# Altium footprint library XY-V17B封装图.PcbLib: 1 footprints
Each footprint in its own frame and in the unit in brackets; x right, y up, seen from the top. Pads: shape width x height; smd on the part's side, far side on the other; paste and mask are expansions set on the pad; w line width, h text height; cw(c..) or ccw(c..) is an arc to the next point about the centre after c.
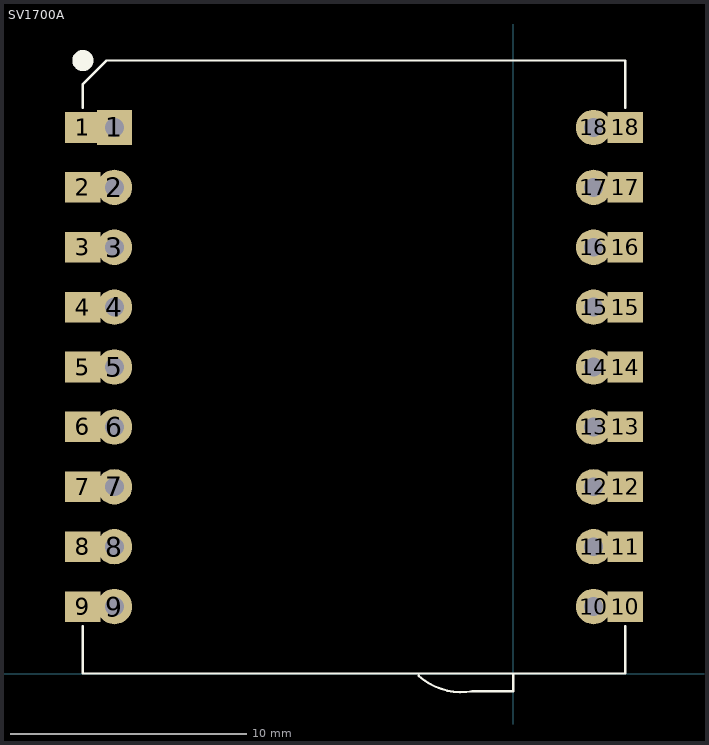
[diagram p0: the footprint, top view; thin cyan lines are the x and y axes]

## SV1700A [mm]
height 4.5
pads (36):
  rect 1.5x1.3 smd: 1(-18.25,23.16) 2(-18.25,20.62) 3(-18.25,18.08) 4(-18.25,15.54) 5(-18.25,13) 6(-18.25,10.46) 7(-18.25,7.92) 8(-18.25,5.38) 9(-18.25,2.84) 10(4.75,2.84) 11(4.75,5.38) 12(4.75,7.92) 13(4.75,10.46) 14(4.75,13) 15(4.75,15.54) 16(4.75,18.08) 17(4.75,20.62) 18(4.75,23.16)
  rect 1.5x1.5 hole 0.8: 1(-16.91,23.16)
  round 1.5 hole 0.8: 2(-16.91,20.62) 3(-16.91,18.08) 4(-16.91,15.54) 5(-16.91,13) 6(-16.91,10.46) 7(-16.91,7.92) 8(-16.91,5.38) 9(-16.91,2.84) 10(3.41,2.84) 11(3.41,5.38) 12(3.41,7.92) 13(3.41,10.46) 14(3.41,13) 15(3.41,15.54) 16(3.41,18.08) 17(3.41,20.62) 18(3.41,23.16)
Top Overlay:
  circle w0.5: c-18.25,26 r0.2
  lines w0.1: -18.25,2 -18.25,0 4.75,0 4.75,2 ; -18.25,24 -18.25,25 -17.25,26 4.75,26 4.75,24 ; -4,-0.1 ccw(c-2.2,1.9) -1.71,-0.746 ; -1.74,-0.75 0,-0.75 0,0